# Altium integrated library LM1117IMPX-3.3_NOPB.IntLib: 1 symbol
Pins are listed as number, name and electrical type; pins without a type are passive.

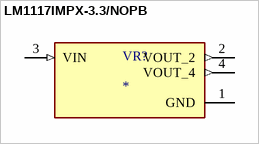
[diagram p0: symbol LM1117IMPX-3.3/NOPB]

## LM1117IMPX-3.3/NOPB
designator VR?
800-mA 15-V linear voltage regulator; MF: Texas Instruments; MP: LM1117IMPX-3.3/NOPB; SnapEDA_Link: https://www.snapeda.com/parts/LM1117IMPX-3.3/NOPB/Texas+Instruments/view-part/?ref=snap; Package: SOT-223-4 Texas Instruments; Value: *; Check_prices: https://www.snapeda.com/parts/LM1117IMPX-3.3/NOPB/Texas+Instruments/view-part/?ref=eda
footprint VREG_LM1117IMPX-3.3/NOPB
pins: 1 GND (power), 2 VOUT_2 (out), 3 VIN (in), 4 VOUT_4 (out)